# Altium schematic symbol library ADP2108AUJZ-3.3.SchLib: 1 symbol
Pins are listed as number, name and electrical type; pins without a type are passive.

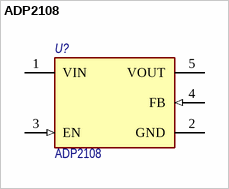
[diagram p0: symbol ADP2108]

## ADP2108
designator U?
DC DC conv   3.3V 600MA TSOT23-5; Number of Regulators: 1; Max Input Voltage: 5.5V; Output Type: Fixed; Min Input Voltage: 2.7V; Output Voltage: ADJ; Quiescent Current: 140uA; Polarity: Positive; Min Current Limit: 250mA; Назначение: DC DC 3.3V 600MA TSOT23-5; Потребление, Вт: 2; Max Operating Temperature: 125°C; Min Operating Temperature: -40°C; Number of Outputs: 1; Contact Plating: Tin; Output Current: 600mA; Lead Free: Contains Lead; Number of Pins: 5; Mount: Surface Mount; Case/Package: SOT-23-5; Max Output Current: 600mA; Packaging: Tape and Reel; ComponentLink1Description: DataSheet; ComponentLink1URL: https://static.chipdip.ru/lib/009/DOC004009616.pdf; Наименование: ADP2108
footprint SOT23-5
pins: 1 VIN (power), 2 GND (power), 3 EN (in), 4 FB (in), 5 VOUT